# Altium footprint library XT PCB Lib.PcbLib: 4 footprints
Each footprint in its own frame and in the unit in brackets; x right, y up, seen from the top. Pads: shape width x height; smd on the part's side, far side on the other; paste and mask are expansions set on the pad; w line width, h text height; cw(c..) or ccw(c..) is an arc to the next point about the centre after c.
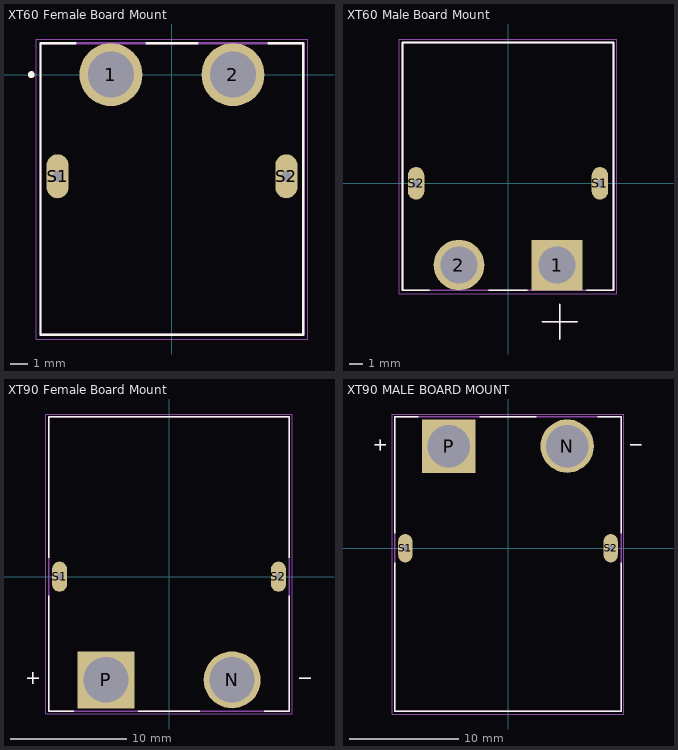
[diagram p0: the footprints below, top view; thin cyan lines are the x and y axes]

## XT60 Female Board Mount [mm]
pads (4):
  round 3.716 hole 2.7: 1(-3.6,0) 2(3.6,0)
  oval 1.3x2.6 hole 0.6 square: S1(-6.75,-6) S2(6.75,-6)
Top Overlay:
  circle w0.2: c-8.3,0 r0.1
  lines w0.127: -5.71,1.85 -7.75,1.85 -7.75,-15.35 7.75,-15.35 7.75,1.85 5.71,1.85 ; -1.49,1.85 1.49,1.85
Mechanical 13:
  circle w0.2: c-8.3,0 r0.1
  lines w0.127: -7.75,-15.35 -7.75,1.85 7.75,1.85 7.75,-15.35 -7.75,-15.35
Mechanical 15:
  lines w0.05: -8,-15.6 -8,2.1 8,2.1 8,-15.6 -8,-15.6
3D body "XT60PW-F--3DModel-STEP-56544.STEP": height 8.4, standoff -2.55, extent -7.75,-15.35 7.75,1.85

## XT60 Male Board Mount [mm]
pads (4):
  rect 3.716x3.716 hole 2.7: 1(3.6,-6)
  round 3.716 hole 2.7: 2(-3.6,-6)
  oval 1.2x2.4 hole 0.6 square: S1(6.75,0) S2(-6.75,0)
Top Overlay:
  lines w0.127: -5.778,-7.85 -7.75,-7.85 -7.75,10.35 7.75,10.35 7.75,-7.85 5.778,-7.85 ; -1.422,-7.85 1.422,-7.85 ; 2.54,-10.16 3.81,-10.16 ; 3.81,-11.43 3.81,-10.16 ; 3.81,-8.89 3.81,-10.16 ; 5.08,-10.16 3.81,-10.16
Mechanical 13:
  lines w0.127: 2.54,-10.16 3.81,-10.16 ; 3.81,-11.43 3.81,-10.16 ; 3.81,-8.89 3.81,-10.16 ; 5.08,-10.16 3.81,-10.16 ; -7.75,-7.85 7.75,-7.85 7.75,10.35 -7.75,10.35 -7.75,-7.85
Mechanical 15:
  lines w0.05: -8,-8.11 8,-8.11 8,10.6 -8,10.6 -8,-8.11
3D body "step_temp.STEP": height 8.4, standoff -2.55, extent -7.75,-7.85 7.75,10.35

## XT90 Female Board Mount [mm]
pads (4):
  round 4.916 hole 3.9: N(5.45,-8.9)
  rect 4.916x4.916 hole 3.9: P(-5.45,-8.9)
  oval 1.3x2.6 hole 0.6 square: S1(-9.45,0) S2(9.45,0)
Top Overlay:
  lines w0.127: -12.25,-8.75 -11.25,-8.75 ; -11.75,-9.25 -11.75,-8.25 ; -10.4,-1.62 -10.4,-11.6 -8.228,-11.6 ; -10.4,1.62 -10.4,13.8 10.4,13.8 10.4,1.62 ; -2.672,-11.6 2.672,-11.6 ; 8.228,-11.6 10.4,-11.6 10.4,-1.62 ; 11.25,-8.75 12.25,-8.75
Mechanical 13:
  lines w0.127: -12.25,-8.75 -11.25,-8.75 ; -11.75,-9.25 -11.75,-8.25 ; 11.25,-8.75 12.25,-8.75 ; -10.4,-11.6 -10.4,13.8 10.4,13.8 10.4,-11.6 -10.4,-11.6
Mechanical 15:
  lines w0.05: -10.65,-11.85 10.65,-11.85 10.65,14.05 -10.65,14.05 -10.65,-11.85
3D body "step_temp.STEP": height 10.3, standoff -3.2, extent -10.75,-11.6 10.75,13.8

## XT90 MALE BOARD MOUNT [mm]
pads (4):
  round 4.916 hole 3.9: N(5.45,9.4)
  rect 4.916x4.916 hole 3.9: P(-5.45,9.4)
  oval 1.3x2.6 hole 0.6 square: S1(-9.45,0) S2(9.45,0)
Top Overlay:
  lines w0.127: -12.25,9.5 -11.25,9.5 ; -11.75,9 -11.75,10 ; -10.4,-1.35 -10.4,-15 10.4,-15 10.4,-1.35 ; -10.4,1.4 -10.4,12.1 -8.25,12.1 ; -2.6,12.1 2.6,12.1 ; 8.25,12.1 10.4,12.1 10.4,1.4 ; 11.25,9.5 12.25,9.5
Mechanical 13:
  lines w0.127: -12.25,9.5 -11.25,9.5 ; -11.75,9 -11.75,10 ; 11.25,9.5 12.25,9.5 ; -10.4,-15 10.4,-15 10.4,12.1 -10.4,12.1 -10.4,-15
Mechanical 15:
  lines w0.05: -10.65,-15.25 10.65,-15.25 10.65,12.35 -10.65,12.35 -10.65,-15.25
3D body "step_temp.STEP": height 10.3, standoff -3.2, extent -10.6,-15 10.6,12.1